# Altium schematic symbol library Electrolytic_Capacitors.SchLib: 2 symbols
Pins are listed as number, name and electrical type; pins without a type are passive.

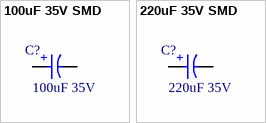
[diagram p0: symbols 100uF 35V SMD to 220uF 35V SMD]

## 100uF 35V SMD
designator C?, comment value 100uF 35V  (hidden comment: ROQANG RVT1V101M0607)
SMD,D6.3xL7.7mm
footprint Wurth D6.3x7.7mm (Aluminum Hybrid Polymer Capacitor, SMT, body diameter 6.3mm)
pins: 1 P, 2 N
text: +

## 220uF 35V SMD
designator C?, comment value 220uF 35V  (hidden comment: ROQANG RVT1V221M0810)
SMD,D8xL10.2mm
pins: 1 P, 2 N
text: +